# Altium footprint library Flight_Controller.PcbLib: 20 footprints (part 2 of 2)
Each footprint in its own frame and in the unit in brackets; x right, y up, seen from the top. Pads: shape width x height; smd on the part's side, far side on the other; paste and mask are expansions set on the pad; w line width, h text height; cw(c..) or ccw(c..) is an arc to the next point about the centre after c.
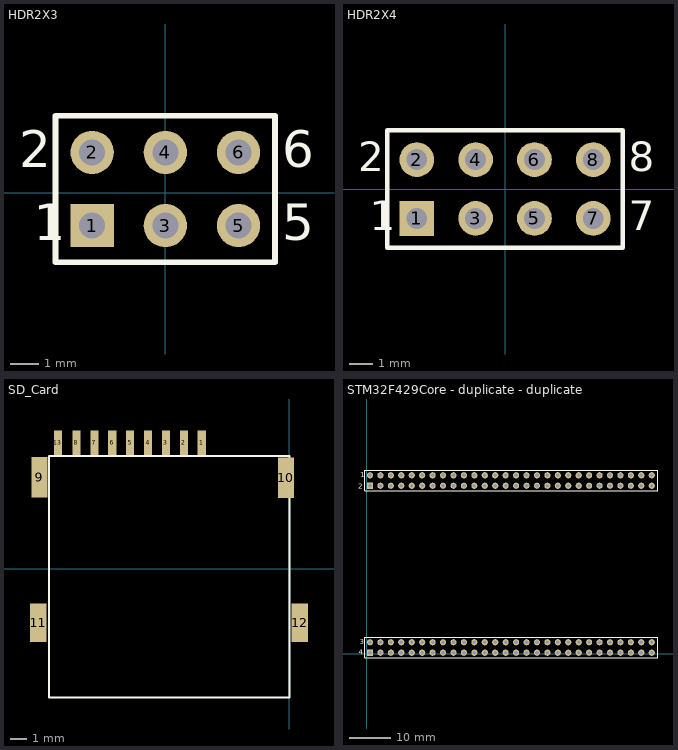
[diagram p1: the footprints below, top view; thin cyan lines are the x and y axes]

## HDR2X3 [mm]
pads (6):
  rect 1.5x1.5 hole 0.9: 1(-2.54,-1.143)
  round 1.5 hole 0.9: 2(-2.54,1.397) 3(0,-1.143) 4(0,1.397) 5(2.54,-1.143) 6(2.54,1.397)
Top Overlay:
  lines w0.2: -1.058,-2.413 3.81,-2.413 ; 3.81,-2.413 3.81,2.667 -3.81,2.667 -3.81,-2.413 3.81,-2.413
  text "6" at 4.064,0.889 h1.27
  text "5" at 4.064,-1.651 h1.27
  text "2" at -5.08,0.889 h1.27
  text "1" at -4.572,-1.651 h1.27

## HDR2X4 [mm] "HDR2X4"
pads (8):
  rect 1.5x1.5 hole 0.9: 1(-3.81,-1.27)
  round 1.5 hole 0.9: 2(-3.81,1.27) 3(-1.27,-1.27) 4(-1.27,1.27) 5(1.27,-1.27) 6(1.27,1.27) 7(3.81,-1.27) 8(3.81,1.27)
Top Overlay:
  lines w0.2: -5.08,-2.54 -5.08,2.54 5.08,2.54 5.08,-2.54 -5.08,-2.54
  text "8" at 5.334,0.762 h1.27
  text "7" at 5.334,-1.778 h1.27
  text "1" at -5.842,-1.778 h1.27
  text "2" at -6.35,0.762 h1.27

## SD_Card [mm] "SD_Card"
pads (13):
  rect 0.5x1.5 smd: 1(-5.381,7.747) 2(-6.481,7.747) 3(-7.581,7.747) 4(-8.681,7.747) 5(-9.781,7.747) 6(-10.881,7.747) 7(-11.981,7.747) 8(-13.081,7.747) 13(-14.224,7.747)
  rect 1x2.5 smd: 9(-15.356,5.622) 10(-0.206,5.597)
  rect 1x2.36 smd: 11(-15.431,-3.303) 12(0.644,-3.303)
Top Overlay:
  lines w0.127: -14.779,-7.903 0.019,-7.903 0.019,6.935 -14.779,6.935 -14.779,-7.903

## STM32F429Core - duplicate - duplicate [mm] "STM32F429Core"
pads (112):
  round 1.5 hole 0.9: 1(0.762,43.434) 2(3.302,43.434) 3(5.842,43.434) 4(8.382,43.434) 5(10.922,43.434) 6(13.462,43.434) 7(16.002,43.434) 8(18.542,43.434) 9(21.082,43.434) 10(23.622,43.434) 11(26.162,43.434) 12(28.702,43.434) 13(31.242,43.434) 14(33.782,43.434) 15(36.322,43.434) 16(38.862,43.434) 17(41.402,43.434) 18(43.942,43.434) 19(46.482,43.434) 20(49.022,43.434) 21(51.562,43.434) 22(54.102,43.434) 23(56.642,43.434) 24(59.182,43.434) 25(61.722,43.434) 26(64.262,43.434) 27(66.802,43.434) 28(69.342,43.434) 30(3.302,40.894) 31(5.842,40.894) 32(8.382,40.894) 33(10.922,40.894) 34(13.462,40.894) 35(16.002,40.894) 36(18.542,40.894) 37(21.082,40.894) 38(23.622,40.894) 39(26.162,40.894) 40(28.702,40.894) 41(31.242,40.894) 42(33.782,40.894) 43(36.322,40.894) 44(38.862,40.894) 45(41.402,40.894) 46(43.942,40.894) 47(46.482,40.894) 48(49.022,40.894) 49(51.562,40.894) 50(54.102,40.894) 51(56.642,40.894) 52(59.182,40.894) 53(61.722,40.894) 54(64.262,40.894) 55(66.802,40.894) 56(69.342,40.894) 57(0.762,2.794) 58(3.302,2.794) 59(5.842,2.794) 60(8.382,2.794) 61(10.922,2.794) 62(13.462,2.794) 63(16.002,2.794) 64(18.542,2.794) 65(21.082,2.794) 66(23.622,2.794) 67(26.162,2.794) 68(28.702,2.794) 69(31.242,2.794) 70(33.782,2.794) 71(36.322,2.794) 72(38.862,2.794) 73(41.402,2.794) 74(43.942,2.794) 75(46.482,2.794) 76(49.022,2.794) 77(51.562,2.794) 78(54.102,2.794) 79(56.642,2.794) 80(59.182,2.794) 81(61.722,2.794) 82(64.262,2.794) 83(66.802,2.794) 84(69.342,2.794) 86(3.302,0.254) 87(5.842,0.254) 88(8.382,0.254) 89(10.922,0.254) 90(13.462,0.254) 91(16.002,0.254) 92(18.542,0.254) 93(21.082,0.254) 94(23.622,0.254) 95(26.162,0.254) 96(28.702,0.254) 97(31.242,0.254) 98(33.782,0.254) 99(36.322,0.254) 100(38.862,0.254) 101(41.402,0.254) 102(43.942,0.254) 103(46.482,0.254) 104(49.022,0.254) 105(51.562,0.254) 106(54.102,0.254) 107(56.642,0.254) 108(59.182,0.254) 109(61.722,0.254) 110(64.262,0.254) 111(66.802,0.254) 112(69.342,0.254)
  rect 1.5x1.5 hole 0.9: 29(0.762,40.894) 85(0.762,0.254)
Top Overlay:
  lines w0.2: 70.866,-1.016 -0.508,-1.016 -0.508,4.064 70.866,4.064 ; 70.866,39.624 -0.508,39.624 -0.508,44.704 70.866,44.704
  lines w0.254: 70.866,-0.889 70.866,4.064 ; 70.866,39.751 70.866,44.704
  text "2" at -2.159,40.132 h1.27
  text "3" at -1.778,2.286 h1.27
  text "4" at -2.032,-0.254 h1.27
  text "1" at -1.651,42.926 h1.27